# EAGLE library part TC1240A (library Custom_old)
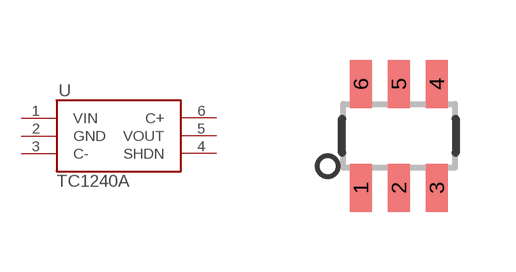
[diagram p30: symbol with the pads of SOT23-6; footprint SOT23-6]

Designator prefix -

## TC1240A  [SOT23-6]
1  VIN
2  GND
3  C-
4  SHDN
5  VOUT
6  C+

## Footprint SOT23-6 (pad centres in mm)
Small Outline Transistor
smd 0.55 x 1.2: 1 -0.95,-1.3; 2 0,-1.3; 3 0.95,-1.3; 4 0.95,1.3; 5 0,1.3; 6 -0.95,1.3